# EAGLE library part WIZFI210 (library SmartSensorWifi)
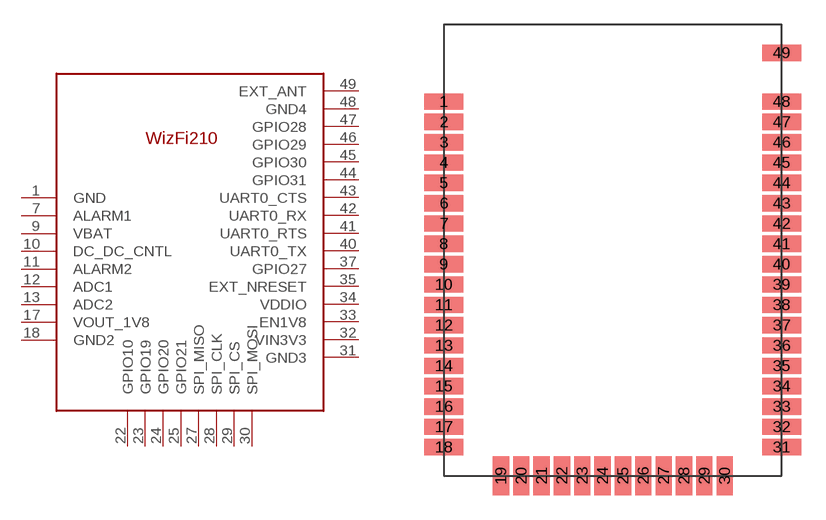
[diagram p0: symbol with the pads of WIZFI210; footprint WIZFI210]

Designator prefix WIFI

## WIZFI210  [WIZFI210]
1  GND  pwr
7  ALARM1  in
9  VBAT  pwr
10  DC_DC_CNTL  out
11  ALARM2
12  ADC1  in
13  ADC2  in
17  VOUT_1V8  pwr
18  GND2  pwr
22  GPIO10
23  GPIO19
24  GPIO20
25  GPIO21
27  SPI_MISO  out
28  SPI_CLK  in
29  SPI_CS  in
30  SPI_MOSI  in
31  GND3  pwr
32  VIN3V3  pwr
33  EN1V8
34  VDDIO
35  EXT_NRESET
37  GPIO27
40  UART0_TX
41  UART0_RTS
42  UART0_RX
43  UART0_CTS
44  GPIO31
45  GPIO30
46  GPIO29
47  GPIO28
48  GND4  pwr
49  EXT_ANT

## Footprint WIZFI210 (pad centres in mm)
smd 2.4 x 1: 1 -10.75,9.5; 2 -10.75,8.25; 3 -10.75,7; 4 -10.75,5.75; 5 -10.75,4.5; 6 -10.75,3.25; 7 -10.75,2; 8 -10.75,0.75; 9 -10.75,-0.5; 10 -10.75,-1.75; 11 -10.75,-3; 12 -10.75,-4.25; 13 -10.75,-5.5; 14 -10.75,-6.75; 15 -10.75,-8; 16 -10.75,-9.25; 17 -10.75,-10.5; 18 -10.75,-11.75; 31 10,-11.75; 32 10,-10.5; 33 10,-9.25; 34 10,-8; 35 10,-6.75; 36 10,-5.5; 37 10,-4.25; 38 10,-3; 39 10,-1.75; 40 10,-0.5; 41 10,0.75; 42 10,2; 43 10,3.25; 44 10,4.5; 45 10,5.75; 46 10,7; 47 10,8.25; 48 10,9.5; 49 10,12.5
smd 1 x 2.4: 19 -7.25,-13.5; 20 -6,-13.5; 21 -4.75,-13.5; 22 -3.5,-13.5; 23 -2.25,-13.5; 24 -1,-13.5; 25 0.25,-13.5; 26 1.5,-13.5; 27 2.75,-13.5; 28 4,-13.5; 29 5.25,-13.5; 30 6.5,-13.5